# Altium footprint library Faston2.PcbLib: 1 footprints
Each footprint in its own frame and in the unit in brackets; x right, y up, seen from the top. Pads: shape width x height; smd on the part's side, far side on the other; paste and mask are expansions set on the pad; w line width, h text height; cw(c..) or ccw(c..) is an arc to the next point about the centre after c.
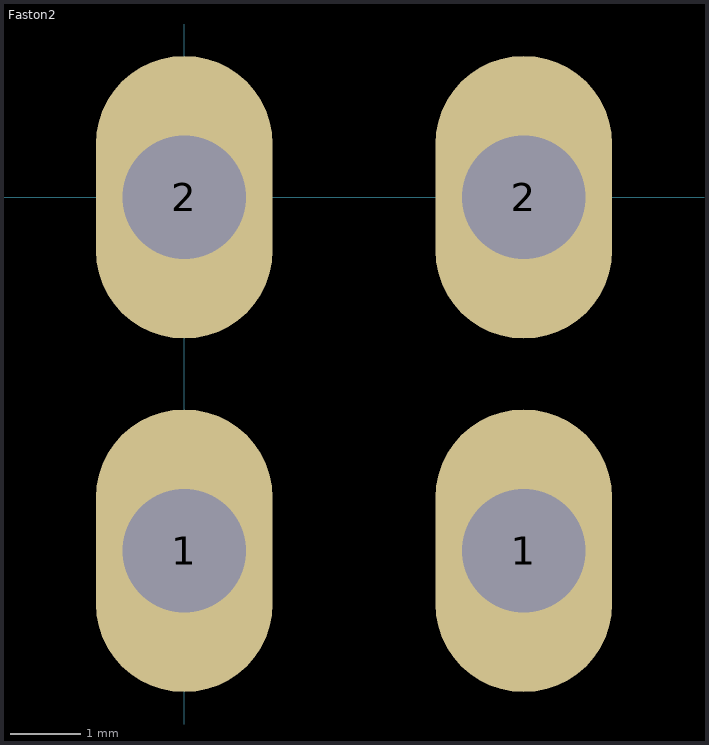
[diagram p0: the footprint, top view; thin cyan lines are the x and y axes]

## Faston2 [mm]
height 10.5
pads (4):
  oval 2.5x4 hole 1.75: 1(0,-5) 1(4.8,-5) 2(0,0) 2(4.8,0)
3D body: height 10.5, standoff 0, extent -1.352,-7.102 6.152,2.102